# EAGLE library part 20021121-00006C4LF (library Labops_Lib_AH)
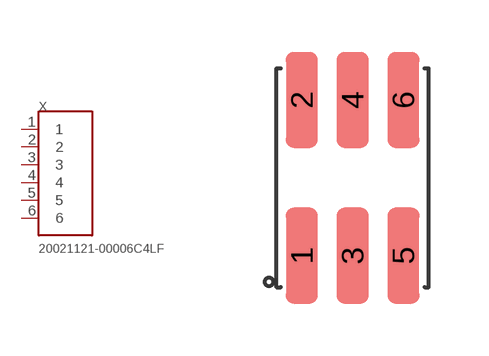
[diagram p76: symbol with the pads of X06_20021121-00006C4LF; footprint X06_20021121-00006C4LF]

Designator prefix X

## 20021121-00006C4LF (DESCRIPTION: Connector Header 6 pin, 1.27mm pitch, SMD; MFN: 20021121-00006C4LF; MFR: Amphenol; PRICE-1: 0.03; SUPPLIER-1: LCSC)  [X06_20021121-00006C4LF]
1  1
2  2
3  3
4  4
5  5
6  6

## Footprint X06_20021121-00006C4LF (pad centres in mm)
smd 0.8 x 2.4: 1 -1.27,-1.95; 2 -1.27,1.95; 3 0,-1.95; 4 0,1.95; 5 1.27,-1.95; 6 1.27,1.95